# Altium schematic symbol library Schlib1.SchLib: 9 symbols
Pins are listed as number, name and electrical type; pins without a type are passive.

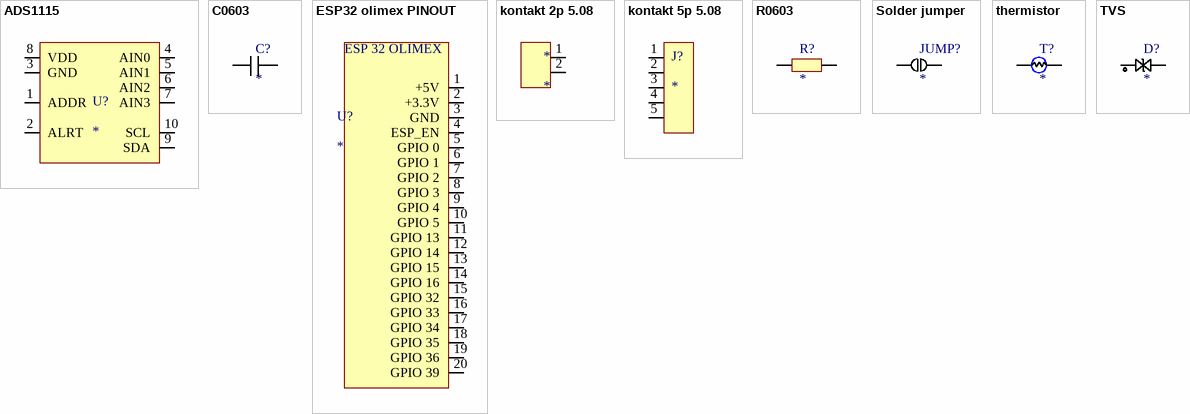
[diagram p0: symbols ADS1115 to TVS]

## ADS1115
designator U?
https://jlcpcb.com/partdetail/TexasInstruments-ADS1115IDGSR/C37593; Manufacturer: Texas Instruments; Manufacturer Part Number: ADS1115IDGSR
footprint TSSOP50P490X110-10N ADS1115 (TSSOP, 10-Leads, Body 3,00x3,00mm, Pitch 0,50mm, IPC Medium Density)
pins: 1 ADDR, 2 ALRT, 3 GND, 4 AIN0, 5 AIN1, 6 AIN2, 7 AIN3, 8 VDD, 9 SDA, 10 SCL

## C0603
designator C?
footprint Cap 0603
pins: 1, 2

## ESP32 olimex PINOUT
designator U?
footprint ESP32 OLIMEX POE
pins: 1 +5V, 2 +3.3V, 3 GND, 4 ESP_EN, 5 GPIO 0, 6 GPIO 1, 7 GPIO 2, 8 GPIO 3, 9 GPIO 4, 10 GPIO 5, 11 GPIO 13, 12 GPIO 14, 13 GPIO 15, 14 GPIO 16, 15 GPIO 32, 16 GPIO 33, 17 GPIO 34, 18 GPIO 35, 19 GPIO 36, 20 GPIO 39
text: ESP 32 OLIMEX

## kontakt 2p 5.08
designator *
footprint Kontakt 2P 5.08
pins: 1, 2

## kontakt 5p 5.08
designator J?
footprint Kontakt 5P 3.5
pins: 1, 2, 3, 4, 5

## R0603
designator R?
footprint Res 0603
pins: 1, 2

## Solder jumper
designator JUMP?
footprint jumper
pins: 1, 2

## thermistor
designator T?
pins: 1, 2 11

## TVS
designator D?
footprint DO-214AA P6SMB (Molded Diode, 2-Leads, Body 4,31x3,62mm, IPC Medium Density)
pins: 1, 2